# Altium schematic symbol library TEP_243-Altium_RLC-Lib.SCHLIB: 4 symbols
Pins are listed as number, name and electrical type; pins without a type are passive.

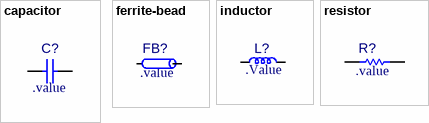
[diagram p0: symbols capacitor to resistor]

## capacitor
designator C?  value .value
Capacitor type 1
pins: 1, 2

## ferrite-bead
designator FB?  value .value
Ferrite Bead type 1
pins: 1, 2

## inductor
designator L?  value .Value
Inductor type 1
pins: 1, 2

## resistor
designator R?  value .value
Resistor type 1
pins: 1, 2